# EAGLE library part NRJ6HM-1 (library con_neutrik_ag__Jack6,35)
1/4" stereo jack, metal nose with efficient chassis ground connection Horizontal PCB panel mount jack featuring high board packing density by mounting on 15.88 mm (0.625 inch) minimum centers in rows or arrays. Mounting hardware must be ordered separately.
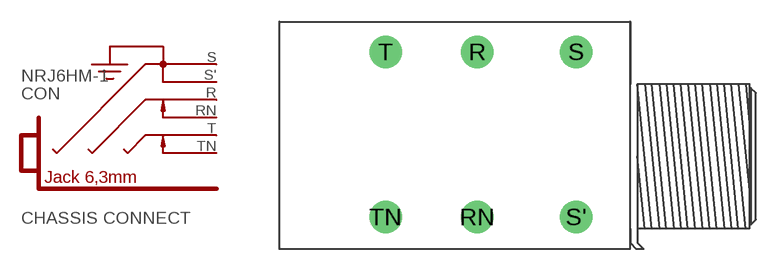
[diagram p6: symbol with the pads of NRJ6HM-1; footprint NRJ6HM-1]

Designator prefix CON

## NRJ6HM-1  [NRJ6HM-1]
R  R  pas
RN  RN  pas
S  S  pas
S'  S'  pas
T  T  pas
TN  TN  pas

## Footprint NRJ6HM-1 (pad centres in mm)
drill 1.5 round: R -11.1,7.23; RN -11.1,-4.2; S -4.25,7.23; S' -4.25,-4.2; T -17.45,7.23; TN -17.45,-4.2